# EAGLE library part 14-SEG (library balto)
14 Segment Dispaly
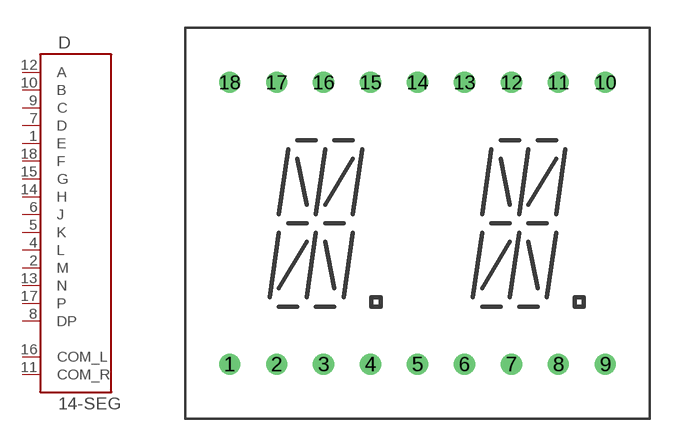
[diagram p57: symbol with the pads of 14-SEG; footprint 14-SEG]

Designator prefix D

## 14-SEG  [14-SEG]
1  E
2  M
4  L
5  K
6  J
7  D
8  DP
9  C
10  B
11  COM_R
12  A
13  N
14  H
15  G
16  COM_L
17  P
18  F

## Footprint 14-SEG (pad centres in mm)
14 Segment Dispaly
drill 0.635: 1 -10.16,-7.62; 2 -7.62,-7.62; 3 -5.08,-7.62; 4 -2.54,-7.62; 5 0,-7.62; 6 2.54,-7.62; 7 5.08,-7.62; 8 7.62,-7.62; 9 10.16,-7.62; 10 10.16,7.62; 11 7.62,7.62; 12 5.08,7.62; 13 2.54,7.62; 14 0,7.62; 15 -2.54,7.62; 16 -5.08,7.62; 17 -7.62,7.62; 18 -10.16,7.62